# Altium footprint library LED Board PCB Lib.PcbLib: 3 footprints
Each footprint in its own frame and in the unit in brackets; x right, y up, seen from the top. Pads: shape width x height; smd on the part's side, far side on the other; paste and mask are expansions set on the pad; w line width, h text height; cw(c..) or ccw(c..) is an arc to the next point about the centre after c.
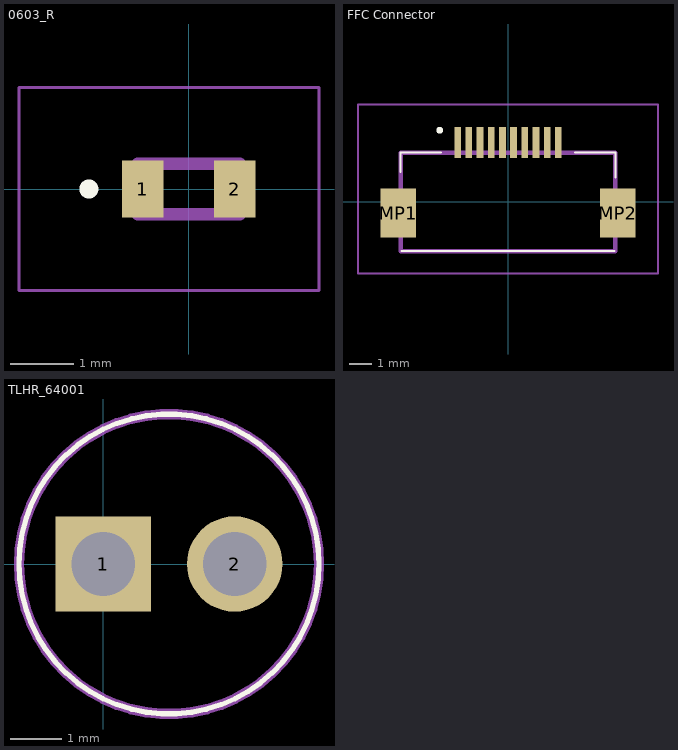
[diagram p0: the footprints below, top view; thin cyan lines are the x and y axes]

## 0603_R [mm]
pads (2):
  rect 0.65x0.9 smd: 1(-0.725,0) 2(0.725,0)
Top Overlay:
  circle w0.2: c-1.575,0 r0.05
Mechanical 13:
  lines w0.2: -0.8,-0.4 0.8,-0.4 0.8,0.4 -0.8,0.4 -0.8,-0.4
Mechanical 15:
  lines w0.05: -2.675,-1.6 2.05,-1.6 2.05,1.6 -2.675,1.6 -2.675,-1.6
3D body "ERA-3KEB2403V.stp": height 0.46, standoff 0, extent -0.8,-0.4 0.8,0.4

## FFC Connector [mm]
pads (12):
  rect 0.3x1.4 smd: 1(-2.25,2.65) 2(-1.75,2.65) 3(-1.25,2.65) 4(-0.75,2.65) 5(-0.25,2.65) 6(0.25,2.65) 7(0.75,2.65) 8(1.25,2.65) 9(1.75,2.65) 10(2.25,2.65)
  rect 1.6x2.2 smd: MP1(-4.9,-0.5) MP2(4.9,-0.5)
Top Overlay:
  lines w0.1: -4.8,2.2 -3,2.2 -4.8,2.2 ; -4.8,2.2 -4.8,1.35 -4.8,2.2 ; 4.8,2.2 4.8,1.1 4.8,2.2 ; 4.8,2.2 3,2.2 4.8,2.2 ; -4.75,-2.2 4.75,-2.2 -4.75,-2.2
  lines w0.2: -3.1,3.2 ccw(c-3.05,3.2) -3,3.2 ; -3.1,3.2 cw(c-3.05,3.2) -3,3.2 ; -3.1,3.2 ccw(c-3.05,3.2) -3,3.2
Mechanical 13:
  lines w0.2: -4.8,-2.2 4.8,-2.2 4.8,2.2 -4.8,2.2 -4.8,-2.2
Mechanical 15:
  lines w0.1: -6.7,-3.2 6.7,-3.2 6.7,4.35 -6.7,4.35 -6.7,-3.2
3D body "52892-1033.stp": height 2.1, standoff 0, extent -5.54,-2.2 5.54,3.32

## TLHR_64001 [mm]
pads (2):
  rect 1.845x1.845 hole 1.23: 1(0,0)
  round 1.845 hole 1.23: 2(2.54,0)
Top Overlay:
  lines w0.1: -1.63,0 cw(c1.27,0) 4.17,0 cw(c1.27,0) -1.63,0
Mechanical 13:
  lines w0.2: -1.63,0 cw(c1.27,0) 4.17,0 cw(c1.27,0) -1.63,0
3D body "ALSRobot-LED Red 5mm.STEP": height 9.31, standoff -5.49, extent -1.694,-3.048 3.726,2.972